# Altium schematic symbol library STM32F429_CORE.SCHLIB: 20 symbols
Pins are listed as number, name and electrical type; pins without a type are passive.

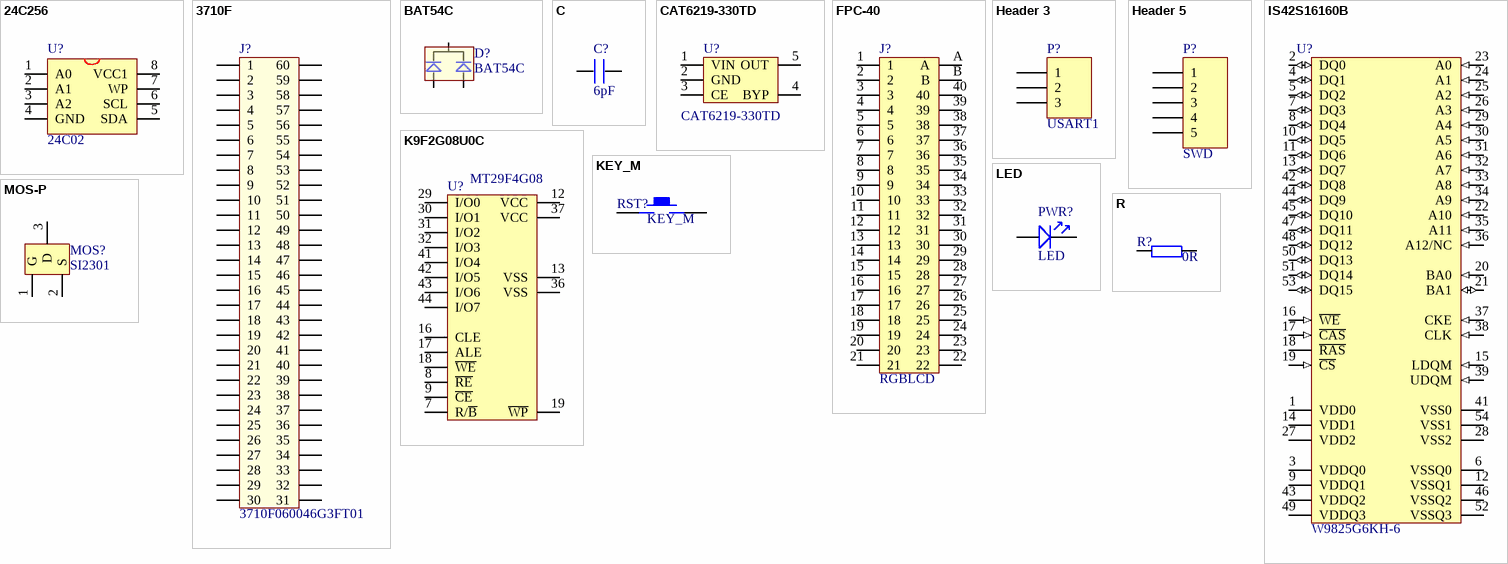
[diagram p0: symbols 24C256 to R]

## 24C256
designator U?, comment 24C02
EEPROM
footprint SOP-8 (SSOP8)
footprint TSSOP8 (Shrink Small Outline, MSOP; 8 Leads; Body Width 3 mm; Pitch 0.65 mm)
pins: 1 A0, 2 A1, 3 A2, 4 GND, 5 SDA, 6 SCL, 7 WP, 8 VCC1

## 3710F
designator J?, comment 3710F060046G3FT01
footprint 3710F060046G3FT01 (PIN:0.8mm;SOP;FEMALE)
pins: 1, 2, 3, 4, 5, 6, 7, 8, 9, 10, 11, 12, 13, 14, 15, 16, 17, 18, 19, 20, 21, 22, 23, 24, 25, 26, 27, 28, 29, 30, 31, 32, 33, 34, 35, 36, 37, 38, 39, 40, 41, 42, 43, 44, 45, 46, 47, 48, 49, 50, 51, 52, 53, 54, 55, 56, 57, 58, 59, 60

## BAT54C
designator D?
双肖特基二极管
footprint SOT-23 (SOT-23; 3 Leads; Body 3.0 x 2.5 mm, inc. leads (LxW max))
pins: 1, 2, 3

## C
designator C?, comment 6pF
footprint 0603P
footprint 0805
footprint CC5.08 (CAP0.1)
footprint CC4.572 (222/332)
footprint 1206
footprint 1210
footprint CC6.096
footprint CC7.62
footprint CVAR (4MM*6.6MM)
footprint 0402
pins: 1, 2

## CAT6219-330TD
designator U?
3.3V 500mA LDO
footprint SOT-23-5
pins: 1 VIN, 2 GND, 3 CE, 4 BYP, 5 OUT

## FPC-40
designator J?, comment RGBLCD
FPC-40P-0.5mm
footprint FPC-TOP40 (FPCTOP;0.5mm;)
pins: 1, 2, 3, 4, 5, 6, 7, 8, 9, 10, 11, 12, 13, 14, 15, 16, 17, 18, 19, 20, 21, 22, 23, 24, 25, 26, 27, 28, 29, 30, 31, 32, 33, 34, 35, 36, 37, 38, 39, 40, A, B

## Header 3
designator P?, comment USART1
Header, 3-Pin; LatestRevisionDate: 17-Jul-2002; LatestRevisionNote: Re-released for DXP Platform.; Publisher: Altium Limited
footprint HDR1X3 (Connector; Header; 3 Position)
signal-integrity model Connector
pins: 1, 2, 3

## Header 5
designator P?, comment SWD
Header, 5-Pin; LatestRevisionDate: 17-Jul-2002; LatestRevisionNote: Re-released for DXP Platform.; Publisher: Altium Limited
footprint HDR1X5 (Connector; Header; 5 Position)
signal-integrity model Connector
pins: 1, 2, 3, 4, 5

## IS42S16160B
designator U?, comment W9825G6KH-6
32MB SDRAM
footprint TSOP54
pins: 1 VDD0 (power), 2 DQ0 (io), 3 VDDQ0 (power), 4 DQ1 (io), 5 DQ2 (io), 6 VSSQ0 (power), 7 DQ3 (io), 8 DQ4 (io), 9 VDDQ1 (power), 10 DQ5 (io), 11 DQ6 (io), 12 VSSQ1 (power), 13 DQ7 (io), 14 VDD1 (power), 15 LDQM (in), 16 ~{WE} (in), 17 ~{CAS} (in), 18 ~{RAS}, 19 ~{CS} (in), 20 BA0 (in), 21 BA1 (io), 22 A10 (in), 23 A0 (in), 24 A1 (in), 25 A2 (in), 26 A3 (in), 27 VDD2 (power), 28 VSS2 (power), 29 A4 (in), 30 A5 (in), 31 A6 (in), 32 A7 (in), 33 A8 (in), 34 A9 (in), 35 A11 (in), 36 A12/NC (in), 37 CKE (in), 38 CLK (in), 39 UDQM (in), 41 VSS0 (power), 42 DQ8 (io), 43 VDDQ2 (power), 44 DQ9 (io), 45 DQ10 (io), 46 VSSQ2 (power), 47 DQ11 (io), 48 DQ12 (io), 49 VDDQ3 (power), 50 DQ13 (io), 51 DQ14 (io), 52 VSSQ3 (power), 53 DQ15 (io), 54 VSS1 (power)
2 alternate drawings of the same symbol

## K9F2G08U0C
designator U?, comment MT29F4G08
256MB NAND FLASH
footprint TSOP48
pins: 7 R/~{B}, 8 ~{RE}, 9 ~{CE}, 12 VCC, 13 VSS, 16 CLE, 17 ALE, 18 ~{WE}, 19 ~{WP}, 29 I/O0, 30 I/O1, 31 I/O2, 32 I/O3, 36 VSS, 37 VCC, 41 I/O4, 42 I/O5, 43 I/O6, 44 I/O7

## KEY_M
designator RST?
footprint KEY_M (KEY_MID)
footprint KEY_2 (KEY?)
footprint KEY_SOP_BG (KEY?)
footprint KEY_SOP3625 (KEY,3mm*6mm*2.5mm)
pins: 1, 2

## LED
designator PWR?
footprint LED-DIP (PIN:2.54MM;H:5MM;)
footprint SMDLED-0603 (0603)
footprint SMDLED-0805 (0805)
pins: 1, 2

## MOS-P
designator MOS?, comment SI2301
IRLML6401/SI2301
footprint SO-G3/C2.5 (SOT-23; 3 Leads; Body 3.0 x 2.6 mm, inc. leads (LxW max))
pins: 1 G, 2 S, 3 D

## R
designator R?, comment 0R
footprint 0805
footprint 0603P
footprint RL (10o/0.7uH)
footprint R16.0 (RX/1W)
footprint 1206
footprint 1210
footprint R20.0 (RX/2W)
footprint R10.16 (STD)
footprint RLN9 (13.5mm*5.1mm)
footprint 0402
pins: 1, 2

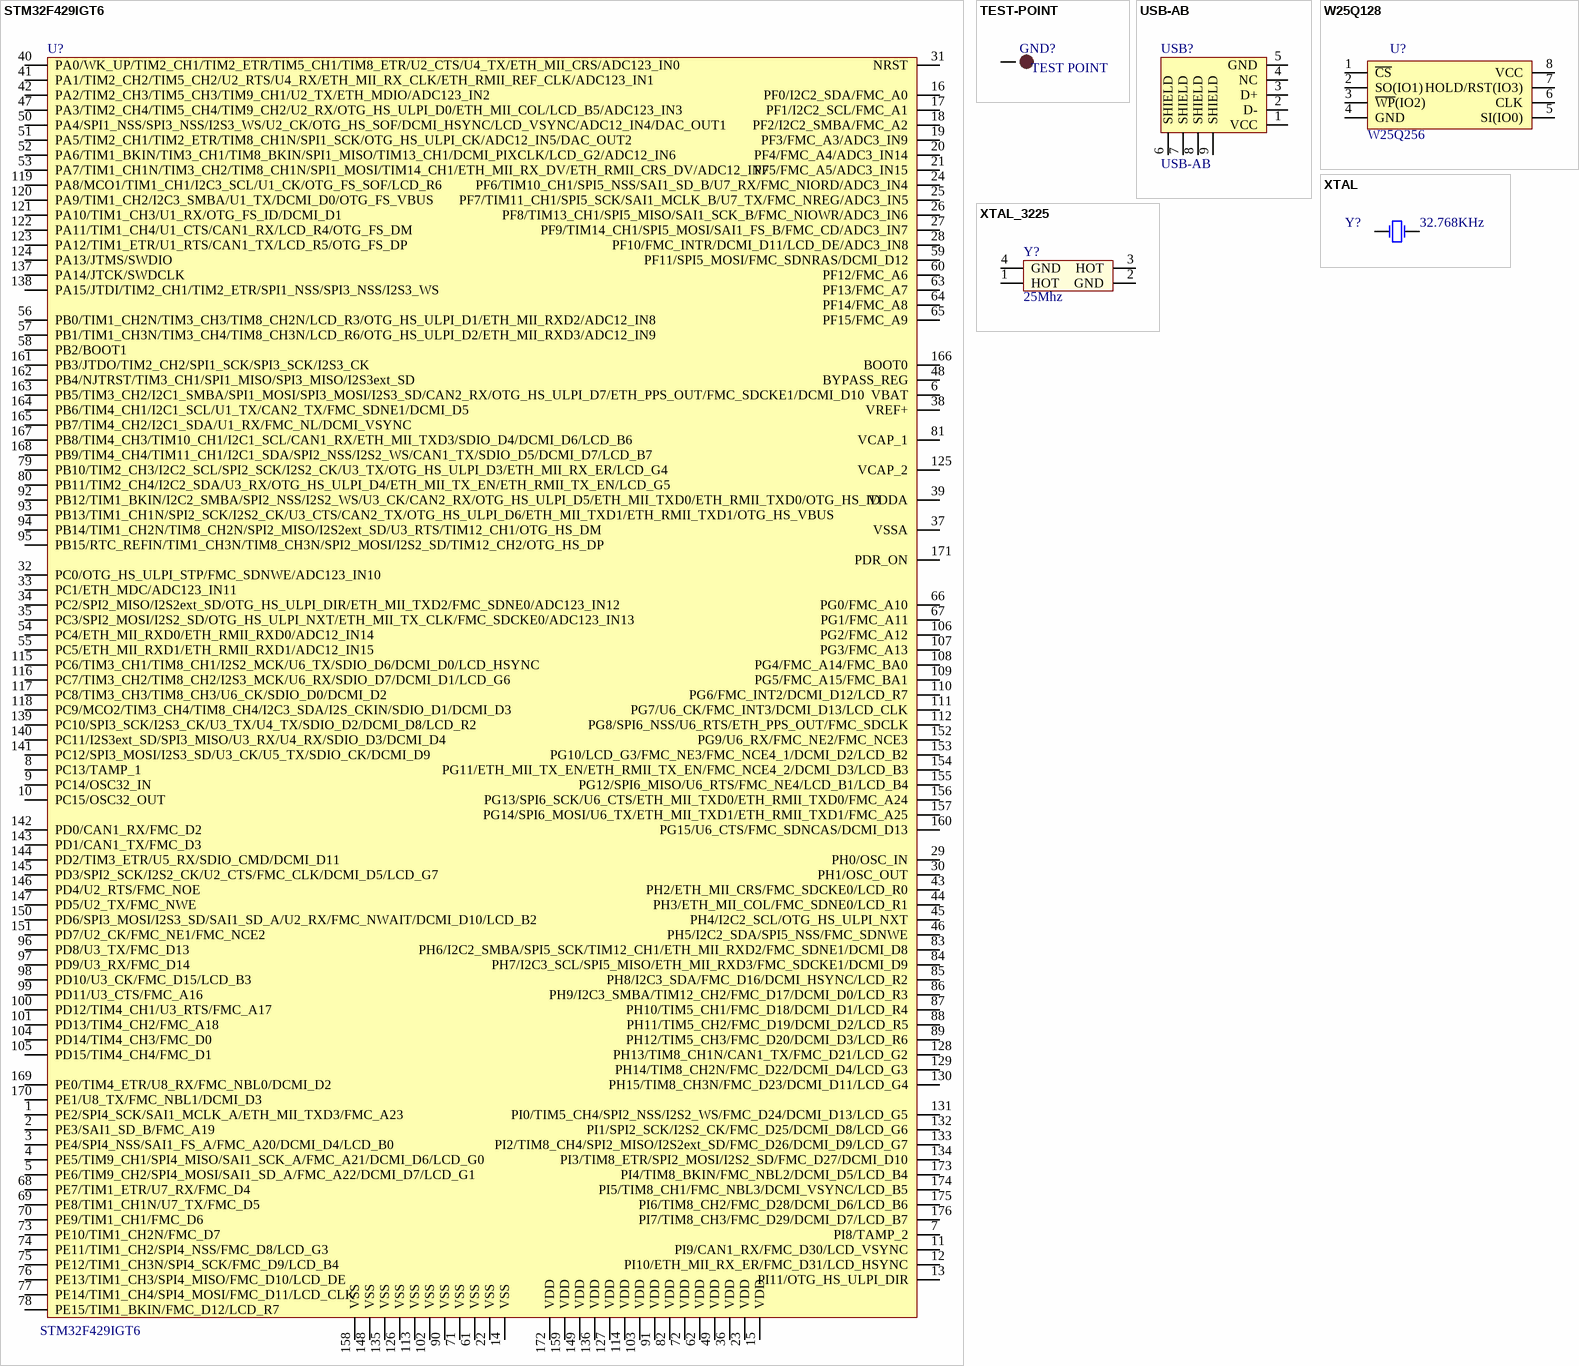
[diagram p1: symbols STM32F429IGT6 to XTAL_3225]

## STM32F429IGT6
designator U?
footprint LQFP176 (TSQFP, 176-Leads, Body 26.1x26.1mm (max), Pitch 0.50mm, IPC Medium Density)
pins: 1 PE2/SPI4_SCK/SAI1_MCLK_A/ETH_MII_TXD3/FMC_A23, 2 PE3/SAI1_SD_B/FMC_A19, 3 PE4/SPI4_NSS/SAI1_FS_A/FMC_A20/DCMI_D4/LCD_B0, 4 PE5/TIM9_CH1/SPI4_MISO/SAI1_SCK_A/FMC_A21/DCMI_D6/LCD_G0, 5 PE6/TIM9_CH2/SPI4_MOSI/SAI1_SD_A/FMC_A22/DCMI_D7/LCD_G1, 6 VBAT, 7 PI8/TAMP_2, 8 PC13/TAMP_1, 9 PC14/OSC32_IN, 10 PC15/OSC32_OUT, 11 PI9/CAN1_RX/FMC_D30/LCD_VSYNC, 12 PI10/ETH_MII_RX_ER/FMC_D31/LCD_HSYNC, 13 PI11/OTG_HS_ULPI_DIR, 14 VSS, 15 VDD, 16 PF0/I2C2_SDA/FMC_A0, 17 PF1/I2C2_SCL/FMC_A1, 18 PF2/I2C2_SMBA/FMC_A2, 19 PF3/FMC_A3/ADC3_IN9, 20 PF4/FMC_A4/ADC3_IN14, 21 PF5/FMC_A5/ADC3_IN15, 22 VSS, 23 VDD, 24 PF6/TIM10_CH1/SPI5_NSS/SAI1_SD_B/U7_RX/FMC_NIORD/ADC3_IN4, 25 PF7/TIM11_CH1/SPI5_SCK/SAI1_MCLK_B/U7_TX/FMC_NREG/ADC3_IN5, 26 PF8/TIM13_CH1/SPI5_MISO/SAI1_SCK_B/FMC_NIOWR/ADC3_IN6, 27 PF9/TIM14_CH1/SPI5_MOSI/SAI1_FS_B/FMC_CD/ADC3_IN7, 28 PF10/FMC_INTR/DCMI_D11/LCD_DE/ADC3_IN8, 29 PH0/OSC_IN, 30 PH1/OSC_OUT, 31 NRST, 32 PC0/OTG_HS_ULPI_STP/FMC_SDNWE/ADC123_IN10, 33 PC1/ETH_MDC/ADC123_IN11, 34 PC2/SPI2_MISO/I2S2ext_SD/OTG_HS_ULPI_DIR/ETH_MII_TXD2/FMC_SDNE0/ADC123_IN12, 35 PC3/SPI2_MOSI/I2S2_SD/OTG_HS_ULPI_NXT/ETH_MII_TX_CLK/FMC_SDCKE0/ADC123_IN13, 36 VDD, 37 VSSA, 38 VREF+, 39 VDDA, 40 PA0/WK_UP/TIM2_CH1/TIM2_ETR/TIM5_CH1/TIM8_ETR/U2_CTS/U4_TX/ETH_MII_CRS/ADC123_IN0, 41 PA1/TIM2_CH2/TIM5_CH2/U2_RTS/U4_RX/ETH_MII_RX_CLK/ETH_RMII_REF_CLK/ADC123_IN1, 42 PA2/TIM2_CH3/TIM5_CH3/TIM9_CH1/U2_TX/ETH_MDIO/ADC123_IN2, 43 PH2/ETH_MII_CRS/FMC_SDCKE0/LCD_R0, 44 PH3/ETH_MII_COL/FMC_SDNE0/LCD_R1, 45 PH4/I2C2_SCL/OTG_HS_ULPI_NXT, 46 PH5/I2C2_SDA/SPI5_NSS/FMC_SDNWE, 47 PA3/TIM2_CH4/TIM5_CH4/TIM9_CH2/U2_RX/OTG_HS_ULPI_D0/ETH_MII_COL/LCD_B5/ADC123_IN3, 48 BYPASS_REG, 49 VDD, 50 PA4/SPI1_NSS/SPI3_NSS/I2S3_WS/U2_CK/OTG_HS_SOF/DCMI_HSYNC/LCD_VSYNC/ADC12_IN4/DAC_OUT1, 51 PA5/TIM2_CH1/TIM2_ETR/TIM8_CH1N/SPI1_SCK/OTG_HS_ULPI_CK/ADC12_IN5/DAC_OUT2, 52 PA6/TIM1_BKIN/TIM3_CH1/TIM8_BKIN/SPI1_MISO/TIM13_CH1/DCMI_PIXCLK/LCD_G2/ADC12_IN6, 53 PA7/TIM1_CH1N/TIM3_CH2/TIM8_CH1N/SPI1_MOSI/TIM14_CH1/ETH_MII_RX_DV/ETH_RMII_CRS_DV/ADC12_IN7, 54 PC4/ETH_MII_RXD0/ETH_RMII_RXD0/ADC12_IN14, 55 PC5/ETH_MII_RXD1/ETH_RMII_RXD1/ADC12_IN15, 56 PB0/TIM1_CH2N/TIM3_CH3/TIM8_CH2N/LCD_R3/OTG_HS_ULPI_D1/ETH_MII_RXD2/ADC12_IN8, 57 PB1/TIM1_CH3N/TIM3_CH4/TIM8_CH3N/LCD_R6/OTG_HS_ULPI_D2/ETH_MII_RXD3/ADC12_IN9, 58 PB2/BOOT1, 59 PF11/SPI5_MOSI/FMC_SDNRAS/DCMI_D12, 60 PF12/FMC_A6, 61 VSS, 62 VDD, 63 PF13/FMC_A7, 64 PF14/FMC_A8, 65 PF15/FMC_A9, 66 PG0/FMC_A10, 67 PG1/FMC_A11, 68 PE7/TIM1_ETR/U7_RX/FMC_D4, 69 PE8/TIM1_CH1N/U7_TX/FMC_D5, 70 PE9/TIM1_CH1/FMC_D6, 71 VSS, 72 VDD, 73 PE10/TIM1_CH2N/FMC_D7, 74 PE11/TIM1_CH2/SPI4_NSS/FMC_D8/LCD_G3, 75 PE12/TIM1_CH3N/SPI4_SCK/FMC_D9/LCD_B4, 76 PE13/TIM1_CH3/SPI4_MISO/FMC_D10/LCD_DE, 77 PE14/TIM1_CH4/SPI4_MOSI/FMC_D11/LCD_CLK, 78 PE15/TIM1_BKIN/FMC_D12/LCD_R7, 79 PB10/TIM2_CH3/I2C2_SCL/SPI2_SCK/I2S2_CK/U3_TX/OTG_HS_ULPI_D3/ETH_MII_RX_ER/LCD_G4, 80 PB11/TIM2_CH4/I2C2_SDA/U3_RX/OTG_HS_ULPI_D4/ETH_MII_TX_EN/ETH_RMII_TX_EN/LCD_G5, 81 VCAP_1, 82 VDD, 83 PH6/I2C2_SMBA/SPI5_SCK/TIM12_CH1/ETH_MII_RXD2/FMC_SDNE1/DCMI_D8, 84 PH7/I2C3_SCL/SPI5_MISO/ETH_MII_RXD3/FMC_SDCKE1/DCMI_D9, 85 PH8/I2C3_SDA/FMC_D16/DCMI_HSYNC/LCD_R2, 86 PH9/I2C3_SMBA/TIM12_CH2/FMC_D17/DCMI_D0/LCD_R3, 87 PH10/TIM5_CH1/FMC_D18/DCMI_D1/LCD_R4, 88 PH11/TIM5_CH2/FMC_D19/DCMI_D2/LCD_R5, 89 PH12/TIM5_CH3/FMC_D20/DCMI_D3/LCD_R6, 90 VSS, 91 VDD, 92 PB12/TIM1_BKIN/I2C2_SMBA/SPI2_NSS/I2S2_WS/U3_CK/CAN2_RX/OTG_HS_ULPI_D5/ETH_MII_TXD0/ETH_RMII_TXD0/OTG_HS_ID, 93 PB13/TIM1_CH1N/SPI2_SCK/I2S2_CK/U3_CTS/CAN2_TX/OTG_HS_ULPI_D6/ETH_MII_TXD1/ETH_RMII_TXD1/OTG_HS_VBUS, 94 PB14/TIM1_CH2N/TIM8_CH2N/SPI2_MISO/I2S2ext_SD/U3_RTS/TIM12_CH1/OTG_HS_DM, 95 PB15/RTC_REFIN/TIM1_CH3N/TIM8_CH3N/SPI2_MOSI/I2S2_SD/TIM12_CH2/OTG_HS_DP, 96 PD8/U3_TX/FMC_D13, 97 PD9/U3_RX/FMC_D14, 98 PD10/U3_CK/FMC_D15/LCD_B3, 99 PD11/U3_CTS/FMC_A16, 100 PD12/TIM4_CH1/U3_RTS/FMC_A17, 101 PD13/TIM4_CH2/FMC_A18, 102 VSS, 103 VDD, 104 PD14/TIM4_CH3/FMC_D0, 105 PD15/TIM4_CH4/FMC_D1, 106 PG2/FMC_A12, 107 PG3/FMC_A13, 108 PG4/FMC_A14/FMC_BA0, 109 PG5/FMC_A15/FMC_BA1, 110 PG6/FMC_INT2/DCMI_D12/LCD_R7, 111 PG7/U6_CK/FMC_INT3/DCMI_D13/LCD_CLK, 112 PG8/SPI6_NSS/U6_RTS/ETH_PPS_OUT/FMC_SDCLK, 113 VSS, 114 VDD, 115 PC6/TIM3_CH1/TIM8_CH1/I2S2_MCK/U6_TX/SDIO_D6/DCMI_D0/LCD_HSYNC, 116 PC7/TIM3_CH2/TIM8_CH2/I2S3_MCK/U6_RX/SDIO_D7/DCMI_D1/LCD_G6, 117 PC8/TIM3_CH3/TIM8_CH3/U6_CK/SDIO_D0/DCMI_D2, 118 PC9/MCO2/TIM3_CH4/TIM8_CH4/I2C3_SDA/I2S_CKIN/SDIO_D1/DCMI_D3, 119 PA8/MCO1/TIM1_CH1/I2C3_SCL/U1_CK/OTG_FS_SOF/LCD_R6, 120 PA9/TIM1_CH2/I2C3_SMBA/U1_TX/DCMI_D0/OTG_FS_VBUS, 121 PA10/TIM1_CH3/U1_RX/OTG_FS_ID/DCMI_D1, 122 PA11/TIM1_CH4/U1_CTS/CAN1_RX/LCD_R4/OTG_FS_DM, 123 PA12/TIM1_ETR/U1_RTS/CAN1_TX/LCD_R5/OTG_FS_DP, 124 PA13/JTMS/SWDIO, 125 VCAP_2, 126 VSS, 127 VDD, 128 PH13/TIM8_CH1N/CAN1_TX/FMC_D21/LCD_G2, 129 PH14/TIM8_CH2N/FMC_D22/DCMI_D4/LCD_G3, 130 PH15/TIM8_CH3N/FMC_D23/DCMI_D11/LCD_G4, 131 PI0/TIM5_CH4/SPI2_NSS/I2S2_WS/FMC_D24/DCMI_D13/LCD_G5, 132 PI1/SPI2_SCK/I2S2_CK/FMC_D25/DCMI_D8/LCD_G6, 133 PI2/TIM8_CH4/SPI2_MISO/I2S2ext_SD/FMC_D26/DCMI_D9/LCD_G7, 134 PI3/TIM8_ETR/SPI2_MOSI/I2S2_SD/FMC_D27/DCMI_D10, 135 VSS, 136 VDD, 137 PA14/JTCK/SWDCLK, 138 PA15/JTDI/TIM2_CH1/TIM2_ETR/SPI1_NSS/SPI3_NSS/I2S3_WS, 139 PC10/SPI3_SCK/I2S3_CK/U3_TX/U4_TX/SDIO_D2/DCMI_D8/LCD_R2, 140 PC11/I2S3ext_SD/SPI3_MISO/U3_RX/U4_RX/SDIO_D3/DCMI_D4, 141 PC12/SPI3_MOSI/I2S3_SD/U3_CK/U5_TX/SDIO_CK/DCMI_D9, 142 PD0/CAN1_RX/FMC_D2, 143 PD1/CAN1_TX/FMC_D3, 144 PD2/TIM3_ETR/U5_RX/SDIO_CMD/DCMI_D11, 145 PD3/SPI2_SCK/I2S2_CK/U2_CTS/FMC_CLK/DCMI_D5/LCD_G7, 146 PD4/U2_RTS/FMC_NOE, 147 PD5/U2_TX/FMC_NWE, 148 VSS, 149 VDD, 150 PD6/SPI3_MOSI/I2S3_SD/SAI1_SD_A/U2_RX/FMC_NWAIT/DCMI_D10/LCD_B2, 151 PD7/U2_CK/FMC_NE1/FMC_NCE2, 152 PG9/U6_RX/FMC_NE2/FMC_NCE3, 153 PG10/LCD_G3/FMC_NE3/FMC_NCE4_1/DCMI_D2/LCD_B2, 154 PG11/ETH_MII_TX_EN/ETH_RMII_TX_EN/FMC_NCE4_2/DCMI_D3/LCD_B3, 155 PG12/SPI6_MISO/U6_RTS/FMC_NE4/LCD_B1/LCD_B4, 156 PG13/SPI6_SCK/U6_CTS/ETH_MII_TXD0/ETH_RMII_TXD0/FMC_A24, 157 PG14/SPI6_MOSI/U6_TX/ETH_MII_TXD1/ETH_RMII_TXD1/FMC_A25, 158 VSS, 159 VDD, 160 PG15/U6_CTS/FMC_SDNCAS/DCMI_D13, 161 PB3/JTDO/TIM2_CH2/SPI1_SCK/SPI3_SCK/I2S3_CK, 162 PB4/NJTRST/TIM3_CH1/SPI1_MISO/SPI3_MISO/I2S3ext_SD, 163 PB5/TIM3_CH2/I2C1_SMBA/SPI1_MOSI/SPI3_MOSI/I2S3_SD/CAN2_RX/OTG_HS_ULPI_D7/ETH_PPS_OUT/FMC_SDCKE1/DCMI_D10, 164 PB6/TIM4_CH1/I2C1_SCL/U1_TX/CAN2_TX/FMC_SDNE1/DCMI_D5, 165 PB7/TIM4_CH2/I2C1_SDA/U1_RX/FMC_NL/DCMI_VSYNC, 166 BOOT0, 167 PB8/TIM4_CH3/TIM10_CH1/I2C1_SCL/CAN1_RX/ETH_MII_TXD3/SDIO_D4/DCMI_D6/LCD_B6, 168 PB9/TIM4_CH4/TIM11_CH1/I2C1_SDA/SPI2_NSS/I2S2_WS/CAN1_TX/SDIO_D5/DCMI_D7/LCD_B7, 169 PE0/TIM4_ETR/U8_RX/FMC_NBL0/DCMI_D2, 170 PE1/U8_TX/FMC_NBL1/DCMI_D3, 171 PDR_ON, 172 VDD, 173 PI4/TIM8_BKIN/FMC_NBL2/DCMI_D5/LCD_B4, 174 PI5/TIM8_CH1/FMC_NBL3/DCMI_VSYNC/LCD_B5, 175 PI6/TIM8_CH2/FMC_D28/DCMI_D6/LCD_B6, 176 PI7/TIM8_CH3/FMC_D29/DCMI_D7/LCD_B7

## TEST-POINT
designator GND?, comment TEST POINT
测试点
footprint TP-1.0 (1.0mm)
footprint TP-1.5 (1.5mm)
pins: 1

## USB-AB
designator USB?
MicroUSB
footprint USB-AB-SOP (Micro USB SOP)
footprint USB_AB (Micro usb座 5pin)
pins: 1 VCC, 2 D-, 3 D+, 4 NC, 5 GND, 6 SHIELD, 7 SHIELD, 8 SHIELD, 9 SHIELD

## W25Q128
designator U?, comment W25Q256
W25Q128
footprint SOIC-8 (SOIC)
footprint WSON8 (WSON8 8-Leads, Body 6.1x8.1mm (max), Pitch 1.27mm, IPC Medium Density)
pins: 1 ~{CS}, 2 SO(IO1), 3 ~{WP}(IO2), 4 GND, 5 SI(IO0) (power), 6 CLK, 7 HOLD/RST(IO3) (power), 8 VCC

## XTAL
designator Y?, comment 32.768KHz
普通晶振; Published: 8-Jun-2000; LatestRevisionDate: 17-Jul-2002; LatestRevisionNote: Re-released for DXP Platform.; Publisher: Altium Limited
footprint XTAL_US
footprint XTAL32
footprint XTAL3215 (3.2mm*1.5mm)
pins: 1 OSC1, 2 OSC2

## XTAL_3225
designator Y?, comment 25Mhz
3225贴片无源晶振
footprint XTAL3225 (3.2mm*2.5mm)
pins: 1 HOT, 2 GND, 3 HOT, 4 GND